# EAGLE library part I__4500 (library ..SMD)
Industrial CONTROL UNIT
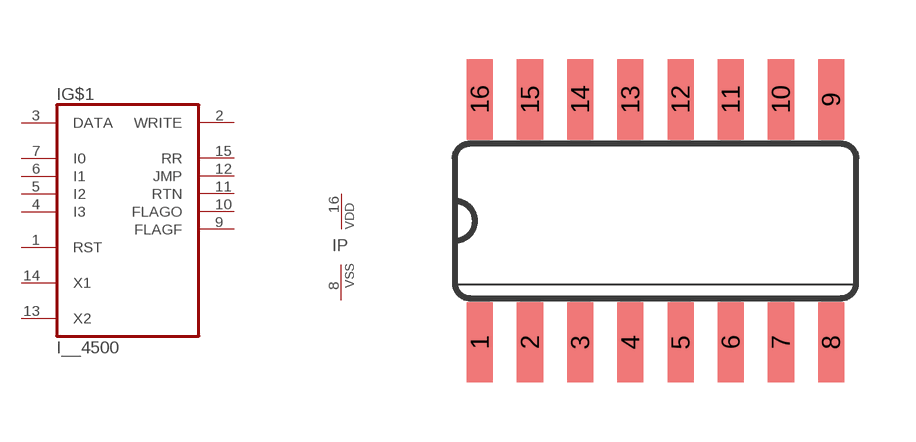
[diagram p91: symbol with the pads of SO16; footprint SO16]

Designator prefix I; gates G$1=4500 P=PWRN

## I__4500D  [SO16]
1  G$1:RST  in
2  G$1:WRITE  out
3  G$1:DATA
4  G$1:I3  in
5  G$1:I2  in
6  G$1:I1  in
7  G$1:I0  in
8  P:VSS  pwr
9  G$1:FLAGF  out
10  G$1:FLAGO  out
11  G$1:RTN  out
12  G$1:JMP  out
13  G$1:X2  in
14  G$1:X1  out
15  G$1:RR  out
16  P:VDD  pwr

## Footprint SO16 (pad centres in mm)
Small Outline Package 16
smd 0.66 x 2.032: 1 -4.445,-3.073; 2 -3.175,-3.073; 3 -1.905,-3.073; 4 -0.635,-3.073; 5 0.635,-3.073; 6 1.905,-3.073; 7 3.175,-3.073; 8 4.445,-3.073; 9 4.445,3.073; 10 3.175,3.073; 11 1.905,3.073; 12 0.635,3.073; 13 -0.635,3.073; 14 -1.905,3.073; 15 -3.175,3.073; 16 -4.445,3.073